# EAGLE library part MILLI-GRID-40 (library con-molex)
Milli-Grid Pin Header 2.00mm (.079") Pitch
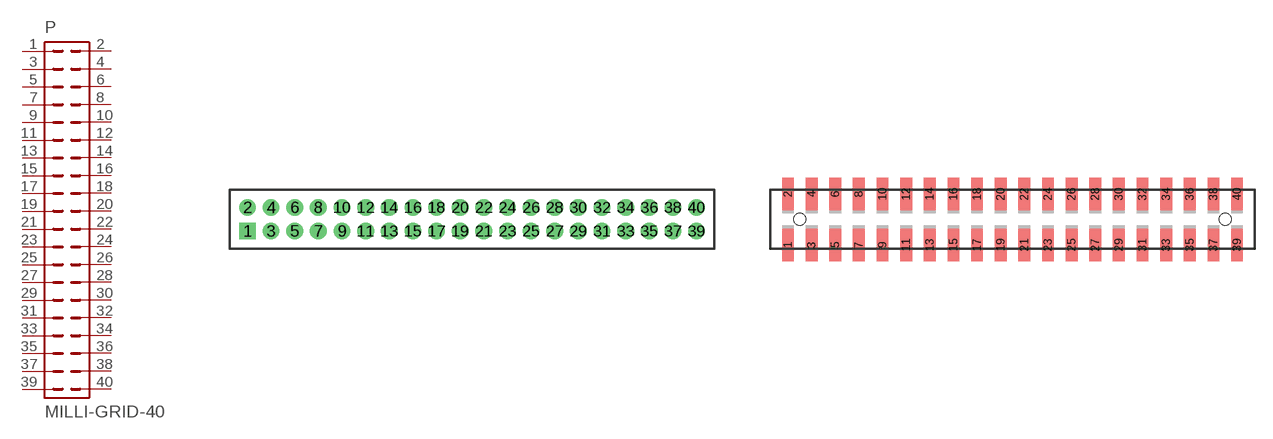
[diagram p68: symbol with the pads of 87758-40; footprints 87758-40, 87759-40]

Designator prefix P

## MILLI-GRID-40-87758  [87758-40]
1  1  pas
2  2  pas
3  3  pas
4  4  pas
5  5  pas
6  6  pas
7  7  pas
8  8  pas
9  9  pas
10  10  pas
11  11  pas
12  12  pas
13  13  pas
14  14  pas
15  15  pas
16  16  pas
17  17  pas
18  18  pas
19  19  pas
20  20  pas
21  21  pas
22  22  pas
23  23  pas
24  24  pas
25  25  pas
26  26  pas
27  27  pas
28  28  pas
29  29  pas
30  30  pas
31  31  pas
32  32  pas
33  33  pas
34  34  pas
35  35  pas
36  36  pas
37  37  pas
38  38  pas
39  39  pas
40  40  pas

## MILLI-GRID-40-87759  [87759-40]
Pads as for 87758-40

## MILLI-GRID-40-87832  [87832-40]
Pads as for 87758-40

## MILLI-GRID-40-79109  [79109-40]
Pads as for 87758-40

## MILLI-GRID-40-79107  [79107-40]
Pads as for 87758-40

## MILLI-GRID-40-87264  [87264-40]
Pads as for 87758-40

## MILLI-GRID-40-87368  [87368-40]
Pads as for 87758-40

## Footprint 87758-40 (pad centres in mm)
PCB Pin Headers 2.00mm (.079") Pitch Milli-Grid Header, Vertical
drill 0.914 square: 1 -19,-1
drill 0.914: 2 -19,1; 3 -17,-1; 4 -17,1; 5 -15,-1; 6 -15,1; 7 -13,-1; 8 -13,1; 9 -11,-1; 10 -11,1; 11 -9,-1; 12 -9,1; 13 -7,-1; 14 -7,1; 15 -5,-1; 16 -5,1; 17 -3,-1; 18 -3,1; 19 -1,-1; 20 -1,1; 21 1,-1; 22 1,1; 23 3,-1; 24 3,1; 25 5,-1; 26 5,1; 27 7,-1; 28 7,1; 29 9,-1; 30 9,1; 31 11,-1; 32 11,1; 33 13,-1; 34 13,1; 35 15,-1; 36 15,1; 37 17,-1; 38 17,1; 39 19,-1; 40 19,1

## Footprint 87759-40 (pad centres in mm)
PCB Pin Headers 2.00mm (.079") Pitch Milli-Grid Header, Vertical SMD
smd 1 x 2.75: 1 -19,-2.15; 2 -19,2.15; 3 -17,-2.15; 4 -17,2.15; 5 -15,-2.15; 6 -15,2.15; 7 -13,-2.15; 8 -13,2.15; 9 -11,-2.15; 10 -11,2.15; 11 -9,-2.15; 12 -9,2.15; 13 -7,-2.15; 14 -7,2.15; 15 -5,-2.15; 16 -5,2.15; 17 -3,-2.15; 18 -3,2.15; 19 -1,-2.15; 20 -1,2.15; 21 1,-2.15; 22 1,2.15; 23 3,-2.15; 24 3,2.15; 25 5,-2.15; 26 5,2.15; 27 7,-2.15; 28 7,2.15; 29 9,-2.15; 30 9,2.15; 31 11,-2.15; 32 11,2.15; 33 13,-2.15; 34 13,2.15; 35 15,-2.15; 36 15,2.15; 37 17,-2.15; 38 17,2.15; 39 19,-2.15; 40 19,2.15
hole 1 at -18,0
hole 1 at 18,0

## Footprint 87832-40 (pad centres in mm)
PCB Headers 2.00mm (.079") Pitch Milli-Grid Header, Vertical, Shrouded
smd 1 x 2.75: 1 -19,-2.15; 2 -19,2.15; 3 -17,-2.15; 4 -17,2.15; 5 -15,-2.15; 6 -15,2.15; 7 -13,-2.15; 8 -13,2.15; 9 -11,-2.15; 10 -11,2.15; 11 -9,-2.15; 12 -9,2.15; 13 -7,-2.15; 14 -7,2.15; 15 -5,-2.15; 16 -5,2.15; 17 -3,-2.15; 18 -3,2.15; 19 -1,-2.15; 20 -1,2.15; 21 1,-2.15; 22 1,2.15; 23 3,-2.15; 24 3,2.15; 25 5,-2.15; 26 5,2.15; 27 7,-2.15; 28 7,2.15; 29 9,-2.15; 30 9,2.15; 31 11,-2.15; 32 11,2.15; 33 13,-2.15; 34 13,2.15; 35 15,-2.15; 36 15,2.15; 37 17,-2.15; 38 17,2.15; 39 19,-2.15; 40 19,2.15
hole 1 at -18,0
hole 1 at 18,0

## Footprint 79109-40 (pad centres in mm)
Board-to-Board Receptacal 2.00mm (.079") Pitch Milli-Grid Header, Vertical, Top/Bottom Entry Mates with: 87758, 87759, 87760, 87831, 87832, 87833
smd 1.12 x 1.83: 1 -19,-2.65; 2 -19,2.65; 3 -17,-2.65; 4 -17,2.65; 5 -15,-2.65; 6 -15,2.65; 7 -13,-2.65; 8 -13,2.65; 9 -11,-2.65; 10 -11,2.65; 11 -9,-2.65; 12 -9,2.65; 13 -7,-2.65; 14 -7,2.65; 15 -5,-2.65; 16 -5,2.65; 17 -3,-2.65; 18 -3,2.65; 19 -1,-2.65; 20 -1,2.65; 21 1,-2.65; 22 1,2.65; 23 3,-2.65; 24 3,2.65; 25 5,-2.65; 26 5,2.65; 27 7,-2.65; 28 7,2.65; 29 9,-2.65; 30 9,2.65; 31 11,-2.65; 32 11,2.65; 33 13,-2.65; 34 13,2.65; 35 15,-2.65; 36 15,2.65; 37 17,-2.65; 38 17,2.65; 39 19,-2.65; 40 19,2.65
hole 0.914 at -18,0
hole 0.914 at -19,1
hole 0.914 at -19,-1
hole 0.914 at -17,-1
hole 0.914 at -17,1
hole 0.914 at -15,-1
hole 0.914 at -15,1
hole 0.914 at 18,0
hole 0.914 at -13,1
hole 0.914 at -13,-1
hole 0.914 at -11,1
hole 0.914 at -11,-1
hole 0.914 at -9,1
hole 0.914 at -9,-1
hole 0.914 at -7,1
hole 0.914 at -7,-1
hole 0.914 at -5,-1
hole 0.914 at -5,1
hole 0.914 at -3,1
hole 0.914 at -3,-1
hole 0.914 at -1,1
hole 0.914 at -1,-1
hole 0.914 at 1,1
hole 0.914 at 1,-1
hole 0.914 at 3,-1
hole 0.914 at 3,1
hole 0.914 at 5,1
hole 0.914 at 7,1
hole 0.914 at 9,1
hole 0.914 at 5,-1
hole 0.914 at 7,-1
hole 0.914 at 9,-1
hole 0.914 at 11,-1
hole 0.914 at 13,-1
hole 0.914 at 15,-1
hole 0.914 at 17,-1
hole 0.914 at 19,-1
hole 0.914 at 11,1
hole 0.914 at 13,1
hole 0.914 at 15,1
hole 0.914 at 17,1
hole 0.914 at 19,1

## Footprint 79107-40 (pad centres in mm)
Board-To-Board Receptacal 2.00mm (.079") Pitch Milli-Grid Header, Vertical, Through-Hole Mates with: 87759, 87762, 87758, 87760
drill 0.914 square: 1 -20,-1
drill 0.914: 2 -20,1; 3 -18,-1; 4 -18,1; 5 -16,-1; 6 -16,1; 7 -14,-1; 8 -14,1; 9 -12,-1; 10 -12,1; 11 -10,-1; 12 -10,1; 13 -8,-1; 14 -8,1; 15 -6,-1; 16 -6,1; 17 -4,-1; 18 -4,1; 19 -2,-1; 20 -2,1; 21 0,-1; 22 0,1; 23 2,-1; 24 2,1; 25 4,-1; 26 4,1; 27 6,-1; 28 6,1; 29 8,-1; 30 8,1; 31 10,-1; 32 10,1; 33 12,-1; 34 12,1; 35 14,-1; 36 14,1; 37 16,-1; 38 16,1; 39 18,-1; 40 18,1

## Footprint 87264-40 (pad centres in mm)
Board-To-Board Receptacal 2.00mm (.079") Pitch Milli-Grid Header, Side Entry Mates with 2mm(.079") Mill-Grid Header
drill 0.914 square: 1 -19,-2.25
drill 0.914: 2 -19,2.25; 3 -17,-2.25; 4 -17,2.25; 5 -15,-2.25; 6 -15,2.25; 7 -13,-2.25; 8 -13,2.25; 9 -11,-2.25; 10 -11,2.25; 11 -9,-2.25; 12 -9,2.25; 13 -7,-2.25; 14 -7,2.25; 15 -5,-2.25; 16 -5,2.25; 17 -3,-2.25; 18 -3,2.25; 19 -1,-2.25; 20 -1,2.25; 21 1,-2.25; 22 1,2.25; 23 3,-2.25; 24 3,2.25; 25 5,-2.25; 26 5,2.25; 27 7,-2.25; 28 7,2.25; 29 9,-2.25; 30 9,2.25; 31 11,-2.25; 32 11,2.25; 33 13,-2.25; 34 13,2.25; 35 15,-2.25; 36 15,2.25; 37 17,-2.25; 38 17,2.25; 39 19,-2.25; 40 19,2.25

## Footprint 87368-40 (pad centres in mm)
Board-To-Board Receptacal 2.00mm (.079") Pitch Milli-Grid Header, Side Entry SMD Mates with 2mm(.079") Mill-Grid Header
smd 1 x 2.8: 1 -19,-3.1; 2 -19,3.1; 3 -17,-3.1; 4 -17,3.1; 5 -15,-3.1; 6 -15,3.1; 7 -13,-3.1; 8 -13,3.1; 9 -11,-3.1; 10 -11,3.1; 11 -9,-3.1; 12 -9,3.1; 13 -7,-3.1; 14 -7,3.1; 15 -5,-3.1; 16 -5,3.1; 17 -3,-3.1; 18 -3,3.1; 19 -1,-3.1; 20 -1,3.1; 21 1,-3.1; 22 1,3.1; 23 3,-3.1; 24 3,3.1; 25 5,-3.1; 26 5,3.1; 27 7,-3.1; 28 7,3.1; 29 9,-3.1; 30 9,3.1; 31 11,-3.1; 32 11,3.1; 33 13,-3.1; 34 13,3.1; 35 15,-3.1; 36 15,3.1; 37 17,-3.1; 38 17,3.1; 39 19,-3.1; 40 19,3.1
hole 0.914 at -19,0
hole 0.914 at 0,0